# EAGLE library part WIRE2BOARD_P2X14 (library dsantoro-conn)
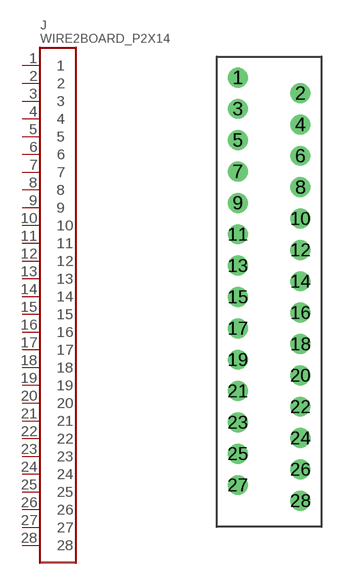
[diagram p1: symbol with the pads of WIRE2BOARD_2X14; footprint WIRE2BOARD_2X14]

Designator prefix J

## WIRE2BOARD_P2X14  [WIRE2BOARD_2X14]
1  1
2  2
3  3
4  4
5  5
6  6
7  7
8  8
9  9
10  10
11  11
12  12
13  13
14  14
15  15
16  16
17  17
18  18
19  19
20  20
21  21
22  22
23  23
24  24
25  25
26  26
27  27
28  28

## Footprint WIRE2BOARD_2X14 (pad centres in mm)
drill 0.7: 1 0,0; 2 3.81,-0.953; 3 0,-1.905; 4 3.81,-2.857; 5 0,-3.81; 6 3.81,-4.763; 7 0,-5.715; 8 3.81,-6.668; 9 0,-7.62; 10 3.81,-8.572; 11 0,-9.525; 12 3.81,-10.477; 13 0,-11.43; 14 3.81,-12.383; 15 0,-13.335; 16 3.81,-14.287; 17 0,-15.24; 18 3.81,-16.192; 19 0,-17.145; 20 3.81,-18.098; 21 0,-19.05; 22 3.81,-20.003; 23 0,-20.955; 24 3.81,-21.907; 25 0,-22.86; 26 3.81,-23.812; 27 0,-24.765; 28 3.81,-25.718